# Altium footprint library Integrated Device Technology Footprints.PcbLib: 16 footprints
Each footprint in its own frame and in the unit in brackets; x right, y up, seen from the top. Pads: shape width x height; smd on the part's side, far side on the other; paste and mask are expansions set on the pad; w line width, h text height; cw(c..) or ccw(c..) is an arc to the next point about the centre after c.
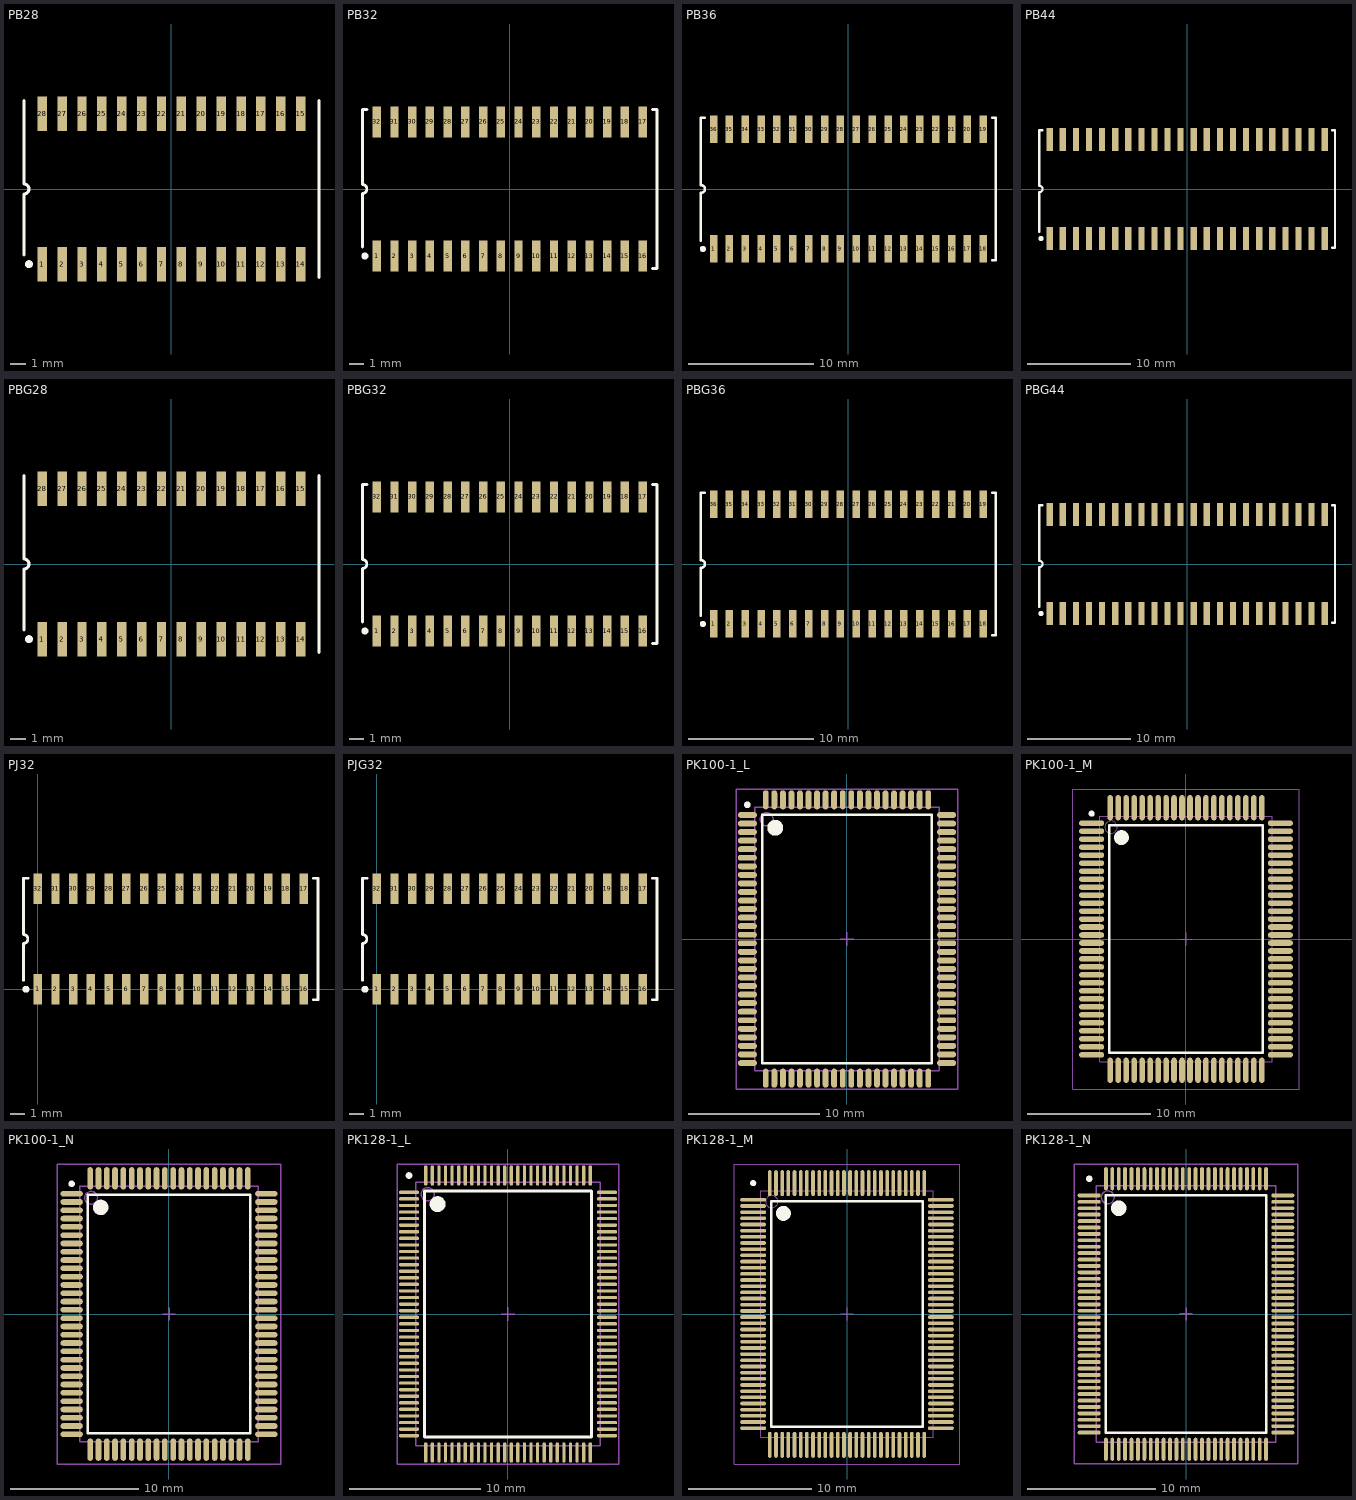
[diagram p0: the footprints below, top view; thin cyan lines are the x and y axes]

## PB28 [mm] "SOJ; 28 Leads; Body Width 10.16 mm; Pitch 1.27 mm"
height 3.69
pads (28):
  rect 0.6x2.2 smd: 1(-8.255,-4.8) 2(-6.985,-4.8) 3(-5.715,-4.8) 4(-4.445,-4.8) 5(-3.175,-4.8) 6(-1.905,-4.8) 7(-0.635,-4.8) 8(0.635,-4.8) 9(1.905,-4.8) 10(3.175,-4.8) 11(4.445,-4.8) 12(5.715,-4.8) 13(6.985,-4.8) 14(8.255,-4.8) 15(8.255,4.8) 16(6.985,4.8) 17(5.715,4.8) 18(4.445,4.8) 19(3.175,4.8) 20(1.905,4.8) 21(0.635,4.8) 22(-0.635,4.8) 23(-1.905,4.8) 24(-3.175,4.8) 25(-4.445,4.8) 26(-5.715,4.8) 27(-6.985,4.8) 28(-8.255,4.8)
Top Overlay:
  circle w0.25: c-9.105,-4.8 r0.125
  lines w0.2: -9.425,-4.2 -9.425,-0.318 ccw(c-9.425,0) -9.425,0.318 -9.425,5.65 ; 9.425,-5.65 9.425,5.65

## PB32 [mm] "SOJ; 32 Leads; Body Width 10.16 mm; Pitch 1.27 mm"
height 3.69
pads (32):
  rect 0.6x2.2 smd: 1(-9.525,-4.8) 2(-8.255,-4.8) 3(-6.985,-4.8) 4(-5.715,-4.8) 5(-4.445,-4.8) 6(-3.175,-4.8) 7(-1.905,-4.8) 8(-0.635,-4.8) 9(0.635,-4.8) 10(1.905,-4.8) 11(3.175,-4.8) 12(4.445,-4.8) 13(5.715,-4.8) 14(6.985,-4.8) 15(8.255,-4.8) 16(9.525,-4.8) 17(9.525,4.8) 18(8.255,4.8) 19(6.985,4.8) 20(5.715,4.8) 21(4.445,4.8) 22(3.175,4.8) 23(1.905,4.8) 24(0.635,4.8) 25(-0.635,4.8) 26(-1.905,4.8) 27(-3.175,4.8) 28(-4.445,4.8) 29(-5.715,4.8) 30(-6.985,4.8) 31(-8.255,4.8) 32(-9.525,4.8)
Top Overlay:
  circle w0.25: c-10.375,-4.8 r0.125
  lines w0.2: -10.55,-4.15 -10.55,-0.318 ccw(c-10.55,0) -10.55,0.318 -10.55,5.7 -10.225,5.7 ; 10.225,-5.7 10.55,-5.7 10.55,5.7 10.225,5.7

## PB36 [mm] "SOJ; 36 Leads; Body Width 10.16 mm; Pitch 1.27 mm"
height 3.69
pads (36):
  rect 0.6x2.2 smd: 1(-10.795,-4.8) 2(-9.525,-4.8) 3(-8.255,-4.8) 4(-6.985,-4.8) 5(-5.715,-4.8) 6(-4.445,-4.8) 7(-3.175,-4.8) 8(-1.905,-4.8) 9(-0.635,-4.8) 10(0.635,-4.8) 11(1.905,-4.8) 12(3.175,-4.8) 13(4.445,-4.8) 14(5.715,-4.8) 15(6.985,-4.8) 16(8.255,-4.8) 17(9.525,-4.8) 18(10.795,-4.8) 19(10.795,4.8) 20(9.525,4.8) 21(8.255,4.8) 22(6.985,4.8) 23(5.715,4.8) 24(4.445,4.8) 25(3.175,4.8) 26(1.905,4.8) 27(0.635,4.8) 28(-0.635,4.8) 29(-1.905,4.8) 30(-3.175,4.8) 31(-4.445,4.8) 32(-5.715,4.8) 33(-6.985,4.8) 34(-8.255,4.8) 35(-9.525,4.8) 36(-10.795,4.8)
Top Overlay:
  circle w0.25: c-11.645,-4.8 r0.125
  lines w0.2: -11.8,-4.15 -11.8,-0.318 ccw(c-11.8,0) -11.8,0.318 -11.8,5.7 -11.495,5.7 ; 11.495,-5.7 11.8,-5.7 11.8,5.7 11.495,5.7

## PB44 [mm] "SOJ; 44 Leads; Body Width 10.16 mm; Pitch 1.27 mm"
height 3.69
pads (44):
  rect 0.6x2.2 smd: 1(-13.335,-4.8) 2(-12.065,-4.8) 3(-10.795,-4.8) 4(-9.525,-4.8) 5(-8.255,-4.8) 6(-6.985,-4.8) 7(-5.715,-4.8) 8(-4.445,-4.8) 9(-3.175,-4.8) 10(-1.905,-4.8) 11(-0.635,-4.8) 12(0.635,-4.8) 13(1.905,-4.8) 14(3.175,-4.8) 15(4.445,-4.8) 16(5.715,-4.8) 17(6.985,-4.8) 18(8.255,-4.8) 19(9.525,-4.8) 20(10.795,-4.8) 21(12.065,-4.8) 22(13.335,-4.8) 23(13.335,4.8) 24(12.065,4.8) 25(10.795,4.8) 26(9.525,4.8) 27(8.255,4.8) 28(6.985,4.8) 29(5.715,4.8) 30(4.445,4.8) 31(3.175,4.8) 32(1.905,4.8) 33(0.635,4.8) 34(-0.635,4.8) 35(-1.905,4.8) 36(-3.175,4.8) 37(-4.445,4.8) 38(-5.715,4.8) 39(-6.985,4.8) 40(-8.255,4.8) 41(-9.525,4.8) 42(-10.795,4.8) 43(-12.065,4.8) 44(-13.335,4.8)
Top Overlay:
  circle w0.25: c-14.185,-4.8 r0.125
  lines w0.2: -14.35,-4.15 -14.35,-0.317 ccw(c-14.35,0) -14.35,0.318 -14.35,5.7 -14.035,5.7 ; 14.035,-5.7 14.35,-5.7 14.35,5.7 14.035,5.7

## PBG28 [mm] "SOJ; 28 Leads; Body Width 10.16 mm; Pitch 1.27 mm"
height 3.69
pads (28):
  rect 0.6x2.2 smd: 1(-8.255,-4.8) 2(-6.985,-4.8) 3(-5.715,-4.8) 4(-4.445,-4.8) 5(-3.175,-4.8) 6(-1.905,-4.8) 7(-0.635,-4.8) 8(0.635,-4.8) 9(1.905,-4.8) 10(3.175,-4.8) 11(4.445,-4.8) 12(5.715,-4.8) 13(6.985,-4.8) 14(8.255,-4.8) 15(8.255,4.8) 16(6.985,4.8) 17(5.715,4.8) 18(4.445,4.8) 19(3.175,4.8) 20(1.905,4.8) 21(0.635,4.8) 22(-0.635,4.8) 23(-1.905,4.8) 24(-3.175,4.8) 25(-4.445,4.8) 26(-5.715,4.8) 27(-6.985,4.8) 28(-8.255,4.8)
Top Overlay:
  circle w0.25: c-9.105,-4.8 r0.125
  lines w0.2: -9.425,-4.2 -9.425,-0.318 ccw(c-9.425,0) -9.425,0.318 -9.425,5.65 ; 9.425,-5.65 9.425,5.65

## PBG32 [mm] "SOJ; 32 Leads; Body Width 10.16 mm; Pitch 1.27 mm"
height 3.69
pads (32):
  rect 0.6x2.2 smd: 1(-9.525,-4.8) 2(-8.255,-4.8) 3(-6.985,-4.8) 4(-5.715,-4.8) 5(-4.445,-4.8) 6(-3.175,-4.8) 7(-1.905,-4.8) 8(-0.635,-4.8) 9(0.635,-4.8) 10(1.905,-4.8) 11(3.175,-4.8) 12(4.445,-4.8) 13(5.715,-4.8) 14(6.985,-4.8) 15(8.255,-4.8) 16(9.525,-4.8) 17(9.525,4.8) 18(8.255,4.8) 19(6.985,4.8) 20(5.715,4.8) 21(4.445,4.8) 22(3.175,4.8) 23(1.905,4.8) 24(0.635,4.8) 25(-0.635,4.8) 26(-1.905,4.8) 27(-3.175,4.8) 28(-4.445,4.8) 29(-5.715,4.8) 30(-6.985,4.8) 31(-8.255,4.8) 32(-9.525,4.8)
Top Overlay:
  circle w0.25: c-10.375,-4.8 r0.125
  lines w0.2: -10.55,-4.15 -10.55,-0.318 ccw(c-10.55,0) -10.55,0.318 -10.55,5.7 -10.225,5.7 ; 10.225,-5.7 10.55,-5.7 10.55,5.7 10.225,5.7

## PBG36 [mm] "SOJ; 36 Leads; Body Width 10.16 mm; Pitch 1.27 mm"
height 3.69
pads (36):
  rect 0.6x2.2 smd: 1(-10.795,-4.8) 2(-9.525,-4.8) 3(-8.255,-4.8) 4(-6.985,-4.8) 5(-5.715,-4.8) 6(-4.445,-4.8) 7(-3.175,-4.8) 8(-1.905,-4.8) 9(-0.635,-4.8) 10(0.635,-4.8) 11(1.905,-4.8) 12(3.175,-4.8) 13(4.445,-4.8) 14(5.715,-4.8) 15(6.985,-4.8) 16(8.255,-4.8) 17(9.525,-4.8) 18(10.795,-4.8) 19(10.795,4.8) 20(9.525,4.8) 21(8.255,4.8) 22(6.985,4.8) 23(5.715,4.8) 24(4.445,4.8) 25(3.175,4.8) 26(1.905,4.8) 27(0.635,4.8) 28(-0.635,4.8) 29(-1.905,4.8) 30(-3.175,4.8) 31(-4.445,4.8) 32(-5.715,4.8) 33(-6.985,4.8) 34(-8.255,4.8) 35(-9.525,4.8) 36(-10.795,4.8)
Top Overlay:
  circle w0.25: c-11.645,-4.8 r0.125
  lines w0.2: -11.8,-4.15 -11.8,-0.318 ccw(c-11.8,0) -11.8,0.318 -11.8,5.7 -11.495,5.7 ; 11.495,-5.7 11.8,-5.7 11.8,5.7 11.495,5.7

## PBG44 [mm] "SOJ; 44 Leads; Body Width 10.16 mm; Pitch 1.27 mm"
height 3.69
pads (44):
  rect 0.6x2.2 smd: 1(-13.335,-4.8) 2(-12.065,-4.8) 3(-10.795,-4.8) 4(-9.525,-4.8) 5(-8.255,-4.8) 6(-6.985,-4.8) 7(-5.715,-4.8) 8(-4.445,-4.8) 9(-3.175,-4.8) 10(-1.905,-4.8) 11(-0.635,-4.8) 12(0.635,-4.8) 13(1.905,-4.8) 14(3.175,-4.8) 15(4.445,-4.8) 16(5.715,-4.8) 17(6.985,-4.8) 18(8.255,-4.8) 19(9.525,-4.8) 20(10.795,-4.8) 21(12.065,-4.8) 22(13.335,-4.8) 23(13.335,4.8) 24(12.065,4.8) 25(10.795,4.8) 26(9.525,4.8) 27(8.255,4.8) 28(6.985,4.8) 29(5.715,4.8) 30(4.445,4.8) 31(3.175,4.8) 32(1.905,4.8) 33(0.635,4.8) 34(-0.635,4.8) 35(-1.905,4.8) 36(-3.175,4.8) 37(-4.445,4.8) 38(-5.715,4.8) 39(-6.985,4.8) 40(-8.255,4.8) 41(-9.525,4.8) 42(-10.795,4.8) 43(-12.065,4.8) 44(-13.335,4.8)
Top Overlay:
  circle w0.25: c-14.185,-4.8 r0.125
  lines w0.2: -14.35,-4.15 -14.35,-0.317 ccw(c-14.35,0) -14.35,0.318 -14.35,5.7 -14.035,5.7 ; 14.035,-5.7 14.35,-5.7 14.35,5.7 14.035,5.7

## PJ32 [mm] "SOJ; 32 Leads; Body Width 7.6 mm; Pitch 1.27 mm"
height 3.76
pads (32):
  rect 0.6x2.2 smd: 1(0,0) 2(1.27,0) 3(2.54,0) 4(3.81,0) 5(5.08,0) 6(6.35,0) 7(7.62,0) 8(8.89,0) 9(10.16,0) 10(11.43,0) 11(12.7,0) 12(13.97,0) 13(15.24,0) 14(16.51,0) 15(17.78,0) 16(19.05,0) 17(19.05,7.2) 18(17.78,7.2) 19(16.51,7.2) 20(15.24,7.2) 21(13.97,7.2) 22(12.7,7.2) 23(11.43,7.2) 24(10.16,7.2) 25(8.89,7.2) 26(7.62,7.2) 27(6.35,7.2) 28(5.08,7.2) 29(3.81,7.2) 30(2.54,7.2) 31(1.27,7.2) 32(0,7.2)
Top Overlay:
  circle w0.25: c-0.85,0 r0.125
  lines w0.2: -1.025,0.65 -1.025,3.283 ccw(c-1.025,3.6) -1.025,3.918 -1.025,7.95 -0.7,7.95 ; 19.75,-0.75 20.075,-0.75 20.075,7.95 19.75,7.95

## PJG32 [mm] "SOJ; 32 Leads; Body Width 7.6 mm; Pitch 1.27 mm"
height 3.76
pads (32):
  rect 0.6x2.2 smd: 1(0,0) 2(1.27,0) 3(2.54,0) 4(3.81,0) 5(5.08,0) 6(6.35,0) 7(7.62,0) 8(8.89,0) 9(10.16,0) 10(11.43,0) 11(12.7,0) 12(13.97,0) 13(15.24,0) 14(16.51,0) 15(17.78,0) 16(19.05,0) 17(19.05,7.2) 18(17.78,7.2) 19(16.51,7.2) 20(15.24,7.2) 21(13.97,7.2) 22(12.7,7.2) 23(11.43,7.2) 24(10.16,7.2) 25(8.89,7.2) 26(7.62,7.2) 27(6.35,7.2) 28(5.08,7.2) 29(3.81,7.2) 30(2.54,7.2) 31(1.27,7.2) 32(0,7.2)
Top Overlay:
  circle w0.25: c-0.85,0 r0.125
  lines w0.2: -1.025,0.65 -1.025,3.283 ccw(c-1.025,3.6) -1.025,3.918 -1.025,7.95 -0.7,7.95 ; 19.75,-0.75 20.075,-0.75 20.075,7.95 19.75,7.95

## PK100-1_L [mm] "100-Pin Thin Quad Flat Pack Rectangular 0.65 mm Pitch, IPC High Density"
height 1.6
pads (100):
  oval 1.45x0.45 smd: 1(-7.575,9.425) 2(-7.575,8.775) 3(-7.575,8.125) 4(-7.575,7.475) 5(-7.575,6.825) 6(-7.575,6.175) 7(-7.575,5.525) 8(-7.575,4.875) 9(-7.575,4.225) 10(-7.575,3.575) 11(-7.575,2.925) 12(-7.575,2.275) 13(-7.575,1.625) 14(-7.575,0.975) 15(-7.575,0.325) 16(-7.575,-0.325) 17(-7.575,-0.975) 18(-7.575,-1.625) 19(-7.575,-2.275) 20(-7.575,-2.925) 21(-7.575,-3.575) 22(-7.575,-4.225) 23(-7.575,-4.875) 24(-7.575,-5.525) 25(-7.575,-6.175) 26(-7.575,-6.825) 27(-7.575,-7.475) 28(-7.575,-8.125) 29(-7.575,-8.775) 30(-7.575,-9.425) 51(7.575,-9.425) 52(7.575,-8.775) 53(7.575,-8.125) 54(7.575,-7.475) 55(7.575,-6.825) 56(7.575,-6.175) 57(7.575,-5.525) 58(7.575,-4.875) 59(7.575,-4.225) 60(7.575,-3.575) 61(7.575,-2.925) 62(7.575,-2.275) 63(7.575,-1.625) 64(7.575,-0.975) 65(7.575,-0.325) 66(7.575,0.325) 67(7.575,0.975) 68(7.575,1.625) 69(7.575,2.275) 70(7.575,2.925) 71(7.575,3.575) 72(7.575,4.225) 73(7.575,4.875) 74(7.575,5.525) 75(7.575,6.175) 76(7.575,6.825) 77(7.575,7.475) 78(7.575,8.125) 79(7.575,8.775) 80(7.575,9.425)
  oval 0.45x1.45 smd: 31(-6.175,-10.575) 32(-5.525,-10.575) 33(-4.875,-10.575) 34(-4.225,-10.575) 35(-3.575,-10.575) 36(-2.925,-10.575) 37(-2.275,-10.575) 38(-1.625,-10.575) 39(-0.975,-10.575) 40(-0.325,-10.575) 41(0.325,-10.575) 42(0.975,-10.575) 43(1.625,-10.575) 44(2.275,-10.575) 45(2.925,-10.575) 46(3.575,-10.575) 47(4.225,-10.575) 48(4.875,-10.575) 49(5.525,-10.575) 50(6.175,-10.575) 81(6.175,10.575) 82(5.525,10.575) 83(4.875,10.575) 84(4.225,10.575) 85(3.575,10.575) 86(2.925,10.575) 87(2.275,10.575) 88(1.625,10.575) 89(0.975,10.575) 90(0.325,10.575) 91(-0.325,10.575) 92(-0.975,10.575) 93(-1.625,10.575) 94(-2.275,10.575) 95(-2.925,10.575) 96(-3.575,10.575) 97(-4.225,10.575) 98(-4.875,10.575) 99(-5.525,10.575) 100(-6.175,10.575)
Top Overlay:
  circle w0.25: c-7.575,10.2 r0.125
  circle w0.6: c-5.45,8.45 r0.3
  lines w0.2: -6.45,-9.45 -6.45,9.45 6.45,9.45 6.45,-9.45 -6.45,-9.45
Mechanical 13:
  circle w0.1: c-6.1,9.1 r0.5
  lines w0.1: -7,-10 -7,10 7,10 7,-10 -7,-10
Mechanical 15:
  lines w0.1: -0.5,0 0.5,0 ; 0,-0.5 0,0.5 ; -8.4,-11.4 -8.4,11.4 8.4,11.4 8.4,-11.4 -8.4,-11.4
3D body: height 1.6, standoff 0, extent -7,-10 7,10

## PK100-1_M [mm] "100-Pin Thin Quad Flat Pack Rectangular 0.65 mm Pitch, IPC Low Density"
height 1.6
pads (100):
  oval 2.05x0.45 smd: 1(-7.675,9.425) 2(-7.675,8.775) 3(-7.675,8.125) 4(-7.675,7.475) 5(-7.675,6.825) 6(-7.675,6.175) 7(-7.675,5.525) 8(-7.675,4.875) 9(-7.675,4.225) 10(-7.675,3.575) 11(-7.675,2.925) 12(-7.675,2.275) 13(-7.675,1.625) 14(-7.675,0.975) 15(-7.675,0.325) 16(-7.675,-0.325) 17(-7.675,-0.975) 18(-7.675,-1.625) 19(-7.675,-2.275) 20(-7.675,-2.925) 21(-7.675,-3.575) 22(-7.675,-4.225) 23(-7.675,-4.875) 24(-7.675,-5.525) 25(-7.675,-6.175) 26(-7.675,-6.825) 27(-7.675,-7.475) 28(-7.675,-8.125) 29(-7.675,-8.775) 30(-7.675,-9.425) 51(7.675,-9.425) 52(7.675,-8.775) 53(7.675,-8.125) 54(7.675,-7.475) 55(7.675,-6.825) 56(7.675,-6.175) 57(7.675,-5.525) 58(7.675,-4.875) 59(7.675,-4.225) 60(7.675,-3.575) 61(7.675,-2.925) 62(7.675,-2.275) 63(7.675,-1.625) 64(7.675,-0.975) 65(7.675,-0.325) 66(7.675,0.325) 67(7.675,0.975) 68(7.675,1.625) 69(7.675,2.275) 70(7.675,2.925) 71(7.675,3.575) 72(7.675,4.225) 73(7.675,4.875) 74(7.675,5.525) 75(7.675,6.175) 76(7.675,6.825) 77(7.675,7.475) 78(7.675,8.125) 79(7.675,8.775) 80(7.675,9.425)
  oval 0.45x2.05 smd: 31(-6.175,-10.675) 32(-5.525,-10.675) 33(-4.875,-10.675) 34(-4.225,-10.675) 35(-3.575,-10.675) 36(-2.925,-10.675) 37(-2.275,-10.675) 38(-1.625,-10.675) 39(-0.975,-10.675) 40(-0.325,-10.675) 41(0.325,-10.675) 42(0.975,-10.675) 43(1.625,-10.675) 44(2.275,-10.675) 45(2.925,-10.675) 46(3.575,-10.675) 47(4.225,-10.675) 48(4.875,-10.675) 49(5.525,-10.675) 50(6.175,-10.675) 81(6.175,10.675) 82(5.525,10.675) 83(4.875,10.675) 84(4.225,10.675) 85(3.575,10.675) 86(2.925,10.675) 87(2.275,10.675) 88(1.625,10.675) 89(0.975,10.675) 90(0.325,10.675) 91(-0.325,10.675) 92(-0.975,10.675) 93(-1.625,10.675) 94(-2.275,10.675) 95(-2.925,10.675) 96(-3.575,10.675) 97(-4.225,10.675) 98(-4.875,10.675) 99(-5.525,10.675) 100(-6.175,10.675)
Top Overlay:
  circle w0.6: c-5.25,8.25 r0.3
  circle w0.25: c-7.675,10.2 r0.125
  lines w0.2: -6.25,-9.25 6.25,-9.25 6.25,9.25 -6.25,9.25 -6.25,-9.25
Mechanical 13:
  circle w0.1: c-6.1,9.1 r0.5
  lines w0.1: -7,-10 7,-10 7,10 -7,10 -7,-10
Mechanical 15:
  lines w0.1: -0.5,0 0.5,0 ; 0,-0.5 0,0.5 ; -9.2,-12.2 9.2,-12.2 9.2,12.2 -9.2,12.2 -9.2,-12.2
3D body: height 1.6, standoff 0, extent -7,-10 7,10

## PK100-1_N [mm] "100-Pin Thin Quad Flat Pack Rectangular 0.65 mm Pitch, IPC Medium Density"
height 1.6
pads (100):
  oval 1.75x0.45 smd: 1(-7.625,9.425) 2(-7.625,8.775) 3(-7.625,8.125) 4(-7.625,7.475) 5(-7.625,6.825) 6(-7.625,6.175) 7(-7.625,5.525) 8(-7.625,4.875) 9(-7.625,4.225) 10(-7.625,3.575) 11(-7.625,2.925) 12(-7.625,2.275) 13(-7.625,1.625) 14(-7.625,0.975) 15(-7.625,0.325) 16(-7.625,-0.325) 17(-7.625,-0.975) 18(-7.625,-1.625) 19(-7.625,-2.275) 20(-7.625,-2.925) 21(-7.625,-3.575) 22(-7.625,-4.225) 23(-7.625,-4.875) 24(-7.625,-5.525) 25(-7.625,-6.175) 26(-7.625,-6.825) 27(-7.625,-7.475) 28(-7.625,-8.125) 29(-7.625,-8.775) 30(-7.625,-9.425) 51(7.625,-9.425) 52(7.625,-8.775) 53(7.625,-8.125) 54(7.625,-7.475) 55(7.625,-6.825) 56(7.625,-6.175) 57(7.625,-5.525) 58(7.625,-4.875) 59(7.625,-4.225) 60(7.625,-3.575) 61(7.625,-2.925) 62(7.625,-2.275) 63(7.625,-1.625) 64(7.625,-0.975) 65(7.625,-0.325) 66(7.625,0.325) 67(7.625,0.975) 68(7.625,1.625) 69(7.625,2.275) 70(7.625,2.925) 71(7.625,3.575) 72(7.625,4.225) 73(7.625,4.875) 74(7.625,5.525) 75(7.625,6.175) 76(7.625,6.825) 77(7.625,7.475) 78(7.625,8.125) 79(7.625,8.775) 80(7.625,9.425)
  oval 0.45x1.75 smd: 31(-6.175,-10.625) 32(-5.525,-10.625) 33(-4.875,-10.625) 34(-4.225,-10.625) 35(-3.575,-10.625) 36(-2.925,-10.625) 37(-2.275,-10.625) 38(-1.625,-10.625) 39(-0.975,-10.625) 40(-0.325,-10.625) 41(0.325,-10.625) 42(0.975,-10.625) 43(1.625,-10.625) 44(2.275,-10.625) 45(2.925,-10.625) 46(3.575,-10.625) 47(4.225,-10.625) 48(4.875,-10.625) 49(5.525,-10.625) 50(6.175,-10.625) 81(6.175,10.625) 82(5.525,10.625) 83(4.875,10.625) 84(4.225,10.625) 85(3.575,10.625) 86(2.925,10.625) 87(2.275,10.625) 88(1.625,10.625) 89(0.975,10.625) 90(0.325,10.625) 91(-0.325,10.625) 92(-0.975,10.625) 93(-1.625,10.625) 94(-2.275,10.625) 95(-2.925,10.625) 96(-3.575,10.625) 97(-4.225,10.625) 98(-4.875,10.625) 99(-5.525,10.625) 100(-6.175,10.625)
Top Overlay:
  circle w0.25: c-7.625,10.2 r0.125
  circle w0.6: c-5.35,8.35 r0.3
  lines w0.2: -6.35,-9.35 -6.35,9.35 6.35,9.35 6.35,-9.35 -6.35,-9.35
Mechanical 13:
  circle w0.1: c-6.1,9.1 r0.5
  lines w0.1: -7,-10 -7,10 7,10 7,-10 -7,-10
Mechanical 15:
  lines w0.1: -0.5,0 0.5,0 ; 0,-0.5 0,0.5 ; -8.75,-11.75 -8.75,11.75 8.75,11.75 8.75,-11.75 -8.75,-11.75
3D body: height 1.6, standoff 0, extent -7,-10 7,10

## PK128-1_L [mm] "128-Pin Thin Quad Flat Pack Rectangular 0.5 mm Pitch, IPC High Density"
height 1.6
pads (128):
  oval 1.55x0.25 smd: 1(-7.525,9.25) 2(-7.525,8.75) 3(-7.525,8.25) 4(-7.525,7.75) 5(-7.525,7.25) 6(-7.525,6.75) 7(-7.525,6.25) 8(-7.525,5.75) 9(-7.525,5.25) 10(-7.525,4.75) 11(-7.525,4.25) 12(-7.525,3.75) 13(-7.525,3.25) 14(-7.525,2.75) 15(-7.525,2.25) 16(-7.525,1.75) 17(-7.525,1.25) 18(-7.525,0.75) 19(-7.525,0.25) 20(-7.525,-0.25) 21(-7.525,-0.75) 22(-7.525,-1.25) 23(-7.525,-1.75) 24(-7.525,-2.25) 25(-7.525,-2.75) 26(-7.525,-3.25) 27(-7.525,-3.75) 28(-7.525,-4.25) 29(-7.525,-4.75) 30(-7.525,-5.25) 31(-7.525,-5.75) 32(-7.525,-6.25) 33(-7.525,-6.75) 34(-7.525,-7.25) 35(-7.525,-7.75) 36(-7.525,-8.25) 37(-7.525,-8.75) 38(-7.525,-9.25) 65(7.525,-9.25) 66(7.525,-8.75) 67(7.525,-8.25) 68(7.525,-7.75) 69(7.525,-7.25) 70(7.525,-6.75) 71(7.525,-6.25) 72(7.525,-5.75) 73(7.525,-5.25) 74(7.525,-4.75) 75(7.525,-4.25) 76(7.525,-3.75) 77(7.525,-3.25) 78(7.525,-2.75) 79(7.525,-2.25) 80(7.525,-1.75) 81(7.525,-1.25) 82(7.525,-0.75) 83(7.525,-0.25) 84(7.525,0.25) 85(7.525,0.75) 86(7.525,1.25) 87(7.525,1.75) 88(7.525,2.25) 89(7.525,2.75) 90(7.525,3.25) 91(7.525,3.75) 92(7.525,4.25) 93(7.525,4.75) 94(7.525,5.25) 95(7.525,5.75) 96(7.525,6.25) 97(7.525,6.75) 98(7.525,7.25) 99(7.525,7.75) 100(7.525,8.25) 101(7.525,8.75) 102(7.525,9.25)
  oval 0.25x1.55 smd: 39(-6.25,-10.525) 40(-5.75,-10.525) 41(-5.25,-10.525) 42(-4.75,-10.525) 43(-4.25,-10.525) 44(-3.75,-10.525) 45(-3.25,-10.525) 46(-2.75,-10.525) 47(-2.25,-10.525) 48(-1.75,-10.525) 49(-1.25,-10.525) 50(-0.75,-10.525) 51(-0.25,-10.525) 52(0.25,-10.525) 53(0.75,-10.525) 54(1.25,-10.525) 55(1.75,-10.525) 56(2.25,-10.525) 57(2.75,-10.525) 58(3.25,-10.525) 59(3.75,-10.525) 60(4.25,-10.525) 61(4.75,-10.525) 62(5.25,-10.525) 63(5.75,-10.525) 64(6.25,-10.525) 103(6.25,10.525) 104(5.75,10.525) 105(5.25,10.525) 106(4.75,10.525) 107(4.25,10.525) 108(3.75,10.525) 109(3.25,10.525) 110(2.75,10.525) 111(2.25,10.525) 112(1.75,10.525) 113(1.25,10.525) 114(0.75,10.525) 115(0.25,10.525) 116(-0.25,10.525) 117(-0.75,10.525) 118(-1.25,10.525) 119(-1.75,10.525) 120(-2.25,10.525) 121(-2.75,10.525) 122(-3.25,10.525) 123(-3.75,10.525) 124(-4.25,10.525) 125(-4.75,10.525) 126(-5.25,10.525) 127(-5.75,10.525) 128(-6.25,10.525)
Top Overlay:
  circle w0.6: c-5.35,8.35 r0.3
  circle w0.25: c-7.525,10.525 r0.125
  lines w0.2: -6.35,-9.35 6.35,-9.35 6.35,9.35 -6.35,9.35 -6.35,-9.35
Mechanical 13:
  circle w0.1: c-6.1,9.1 r0.5
  lines w0.1: -7,-10 7,-10 7,10 -7,10 -7,-10
Mechanical 15:
  lines w0.1: -0.5,0 0.5,0 ; 0,-0.5 0,0.5 ; -8.4,-11.4 8.4,-11.4 8.4,11.4 -8.4,11.4 -8.4,-11.4
3D body: height 1.6, standoff 0, extent -7,-10 7,10

## PK128-1_M [mm] "128-Pin Thin Quad Flat Pack Rectangular 0.5 mm Pitch, IPC Low Density"
height 1.6
pads (128):
  oval 2.1x0.3 smd: 1(-7.6,9.25) 2(-7.6,8.75) 3(-7.6,8.25) 4(-7.6,7.75) 5(-7.6,7.25) 6(-7.6,6.75) 7(-7.6,6.25) 8(-7.6,5.75) 9(-7.6,5.25) 10(-7.6,4.75) 11(-7.6,4.25) 12(-7.6,3.75) 13(-7.6,3.25) 14(-7.6,2.75) 15(-7.6,2.25) 16(-7.6,1.75) 17(-7.6,1.25) 18(-7.6,0.75) 19(-7.6,0.25) 20(-7.6,-0.25) 21(-7.6,-0.75) 22(-7.6,-1.25) 23(-7.6,-1.75) 24(-7.6,-2.25) 25(-7.6,-2.75) 26(-7.6,-3.25) 27(-7.6,-3.75) 28(-7.6,-4.25) 29(-7.6,-4.75) 30(-7.6,-5.25) 31(-7.6,-5.75) 32(-7.6,-6.25) 33(-7.6,-6.75) 34(-7.6,-7.25) 35(-7.6,-7.75) 36(-7.6,-8.25) 37(-7.6,-8.75) 38(-7.6,-9.25) 65(7.6,-9.25) 66(7.6,-8.75) 67(7.6,-8.25) 68(7.6,-7.75) 69(7.6,-7.25) 70(7.6,-6.75) 71(7.6,-6.25) 72(7.6,-5.75) 73(7.6,-5.25) 74(7.6,-4.75) 75(7.6,-4.25) 76(7.6,-3.75) 77(7.6,-3.25) 78(7.6,-2.75) 79(7.6,-2.25) 80(7.6,-1.75) 81(7.6,-1.25) 82(7.6,-0.75) 83(7.6,-0.25) 84(7.6,0.25) 85(7.6,0.75) 86(7.6,1.25) 87(7.6,1.75) 88(7.6,2.25) 89(7.6,2.75) 90(7.6,3.25) 91(7.6,3.75) 92(7.6,4.25) 93(7.6,4.75) 94(7.6,5.25) 95(7.6,5.75) 96(7.6,6.25) 97(7.6,6.75) 98(7.6,7.25) 99(7.6,7.75) 100(7.6,8.25) 101(7.6,8.75) 102(7.6,9.25)
  oval 0.3x2.1 smd: 39(-6.25,-10.6) 40(-5.75,-10.6) 41(-5.25,-10.6) 42(-4.75,-10.6) 43(-4.25,-10.6) 44(-3.75,-10.6) 45(-3.25,-10.6) 46(-2.75,-10.6) 47(-2.25,-10.6) 48(-1.75,-10.6) 49(-1.25,-10.6) 50(-0.75,-10.6) 51(-0.25,-10.6) 52(0.25,-10.6) 53(0.75,-10.6) 54(1.25,-10.6) 55(1.75,-10.6) 56(2.25,-10.6) 57(2.75,-10.6) 58(3.25,-10.6) 59(3.75,-10.6) 60(4.25,-10.6) 61(4.75,-10.6) 62(5.25,-10.6) 63(5.75,-10.6) 64(6.25,-10.6) 103(6.25,10.6) 104(5.75,10.6) 105(5.25,10.6) 106(4.75,10.6) 107(4.25,10.6) 108(3.75,10.6) 109(3.25,10.6) 110(2.75,10.6) 111(2.25,10.6) 112(1.75,10.6) 113(1.25,10.6) 114(0.75,10.6) 115(0.25,10.6) 116(-0.25,10.6) 117(-0.75,10.6) 118(-1.25,10.6) 119(-1.75,10.6) 120(-2.25,10.6) 121(-2.75,10.6) 122(-3.25,10.6) 123(-3.75,10.6) 124(-4.25,10.6) 125(-4.75,10.6) 126(-5.25,10.6) 127(-5.75,10.6) 128(-6.25,10.6)
Top Overlay:
  circle w0.25: c-7.6,10.6 r0.125
  circle w0.6: c-5.15,8.15 r0.3
  lines w0.2: -6.15,-9.15 -6.15,9.15 6.15,9.15 6.15,-9.15 -6.15,-9.15
Mechanical 13:
  circle w0.1: c-6.1,9.1 r0.5
  lines w0.1: -7,-10 -7,10 7,10 7,-10 -7,-10
Mechanical 15:
  lines w0.1: -0.5,0 0.5,0 ; 0,-0.5 0,0.5 ; -9.15,-12.15 -9.15,12.15 9.15,12.15 9.15,-12.15 -9.15,-12.15
3D body: height 1.6, standoff 0, extent -7,-10 7,10

## PK128-1_N [mm] "128-Pin Thin Quad Flat Pack Rectangular 0.5 mm Pitch, IPC Medium Density"
height 1.6
pads (128):
  oval 1.8x0.3 smd: 1(-7.55,9.25) 2(-7.55,8.75) 3(-7.55,8.25) 4(-7.55,7.75) 5(-7.55,7.25) 6(-7.55,6.75) 7(-7.55,6.25) 8(-7.55,5.75) 9(-7.55,5.25) 10(-7.55,4.75) 11(-7.55,4.25) 12(-7.55,3.75) 13(-7.55,3.25) 14(-7.55,2.75) 15(-7.55,2.25) 16(-7.55,1.75) 17(-7.55,1.25) 18(-7.55,0.75) 19(-7.55,0.25) 20(-7.55,-0.25) 21(-7.55,-0.75) 22(-7.55,-1.25) 23(-7.55,-1.75) 24(-7.55,-2.25) 25(-7.55,-2.75) 26(-7.55,-3.25) 27(-7.55,-3.75) 28(-7.55,-4.25) 29(-7.55,-4.75) 30(-7.55,-5.25) 31(-7.55,-5.75) 32(-7.55,-6.25) 33(-7.55,-6.75) 34(-7.55,-7.25) 35(-7.55,-7.75) 36(-7.55,-8.25) 37(-7.55,-8.75) 38(-7.55,-9.25) 65(7.55,-9.25) 66(7.55,-8.75) 67(7.55,-8.25) 68(7.55,-7.75) 69(7.55,-7.25) 70(7.55,-6.75) 71(7.55,-6.25) 72(7.55,-5.75) 73(7.55,-5.25) 74(7.55,-4.75) 75(7.55,-4.25) 76(7.55,-3.75) 77(7.55,-3.25) 78(7.55,-2.75) 79(7.55,-2.25) 80(7.55,-1.75) 81(7.55,-1.25) 82(7.55,-0.75) 83(7.55,-0.25) 84(7.55,0.25) 85(7.55,0.75) 86(7.55,1.25) 87(7.55,1.75) 88(7.55,2.25) 89(7.55,2.75) 90(7.55,3.25) 91(7.55,3.75) 92(7.55,4.25) 93(7.55,4.75) 94(7.55,5.25) 95(7.55,5.75) 96(7.55,6.25) 97(7.55,6.75) 98(7.55,7.25) 99(7.55,7.75) 100(7.55,8.25) 101(7.55,8.75) 102(7.55,9.25)
  oval 0.3x1.8 smd: 39(-6.25,-10.55) 40(-5.75,-10.55) 41(-5.25,-10.55) 42(-4.75,-10.55) 43(-4.25,-10.55) 44(-3.75,-10.55) 45(-3.25,-10.55) 46(-2.75,-10.55) 47(-2.25,-10.55) 48(-1.75,-10.55) 49(-1.25,-10.55) 50(-0.75,-10.55) 51(-0.25,-10.55) 52(0.25,-10.55) 53(0.75,-10.55) 54(1.25,-10.55) 55(1.75,-10.55) 56(2.25,-10.55) 57(2.75,-10.55) 58(3.25,-10.55) 59(3.75,-10.55) 60(4.25,-10.55) 61(4.75,-10.55) 62(5.25,-10.55) 63(5.75,-10.55) 64(6.25,-10.55) 103(6.25,10.55) 104(5.75,10.55) 105(5.25,10.55) 106(4.75,10.55) 107(4.25,10.55) 108(3.75,10.55) 109(3.25,10.55) 110(2.75,10.55) 111(2.25,10.55) 112(1.75,10.55) 113(1.25,10.55) 114(0.75,10.55) 115(0.25,10.55) 116(-0.25,10.55) 117(-0.75,10.55) 118(-1.25,10.55) 119(-1.75,10.55) 120(-2.25,10.55) 121(-2.75,10.55) 122(-3.25,10.55) 123(-3.75,10.55) 124(-4.25,10.55) 125(-4.75,10.55) 126(-5.25,10.55) 127(-5.75,10.55) 128(-6.25,10.55)
Top Overlay:
  circle w0.25: c-7.55,10.55 r0.125
  circle w0.6: c-5.25,8.25 r0.3
  lines w0.2: -6.25,-9.25 -6.25,9.25 6.25,9.25 6.25,-9.25 -6.25,-9.25
Mechanical 13:
  circle w0.1: c-6.1,9.1 r0.5
  lines w0.1: -7,-10 -7,10 7,10 7,-10 -7,-10
Mechanical 15:
  lines w0.1: -0.5,0 0.5,0 ; 0,-0.5 0,0.5 ; -8.7,-11.7 -8.7,11.7 8.7,11.7 8.7,-11.7 -8.7,-11.7
3D body: height 1.6, standoff 0, extent -7,-10 7,10